# EAGLE library part AFE031 (library MDB_HOME)
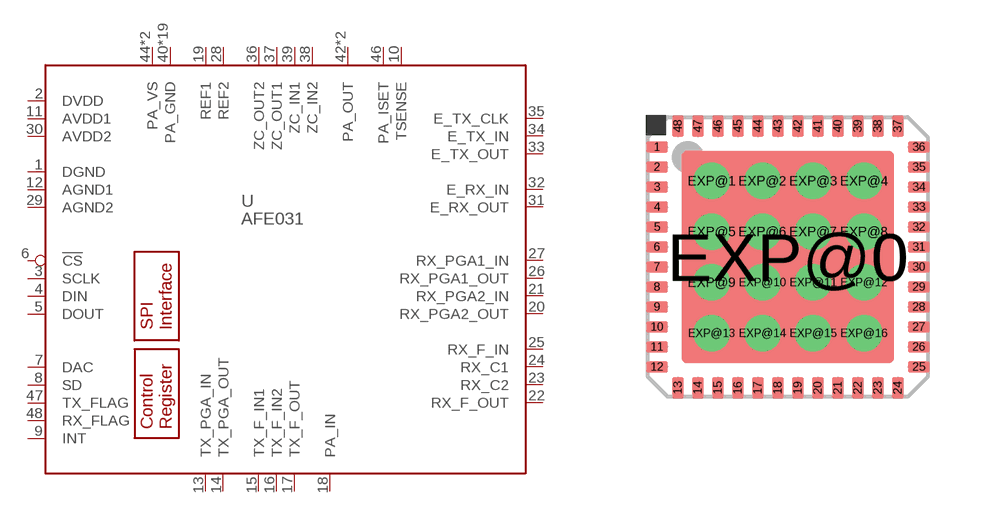
[diagram p59: symbol with the pads of QFN48; footprint QFN48]

Designator prefix U

## AFE031  [QFN48]
1  DGND
2  DVDD
3  SCLK
4  DIN
5  DOUT
6  !CS
7  DAC
8  SD
9  INT
10  TSENSE
11  AVDD1
12  AGND1
13  TX_PGA_IN
14  TX_PGA_OUT
15  TX_F_IN1
16  TX_F_IN2
17  TX_F_OUT
18  PA_IN
19  REF1
20  RX_PGA2_OUT
21  RX_PGA2_IN
22  RX_F_OUT
23  RX_C2
24  RX_C1
25  RX_F_IN
26  RX_PGA1_OUT
27  RX_PGA1_IN
28  REF2
29  AGND2
30  AVDD2
31  E_RX_OUT
32  E_RX_IN
33  E_TX_OUT
34  E_TX_IN
35  E_TX_CLK
36  ZC_OUT2
37  ZC_OUT1
38  ZC_IN2
39  ZC_IN1
40  PA_GND
41  PA_GND
42  PA_OUT
43  PA_OUT
44  PA_VS
45  PA_VS
46  PA_ISET
47  TX_FLAG
48  RX_FLAG
EXP@0  PA_GND
EXP@1  PA_GND
EXP@2  PA_GND
EXP@3  PA_GND
EXP@4  PA_GND
EXP@5  PA_GND
EXP@6  PA_GND
EXP@7  PA_GND
EXP@8  PA_GND
EXP@9  PA_GND
EXP@10  PA_GND
EXP@11  PA_GND
EXP@12  PA_GND
EXP@13  PA_GND
EXP@14  PA_GND
EXP@15  PA_GND
EXP@16  PA_GND

## Footprint QFN48 (pad centres in mm)
48-pin QFN 7 x 7 mm LF48 QFN-48 Quad Flat Package No Leads, PowerPAD TI QFN Layout Guidelines <http://www.ti.com/lit/an/sloa122/sloa122.pdf> TI QFN/SON PCB Attachment <http://www.ti.com/lit/an/slua271a/slua271a.pdf> Cypress package source <http://v4.cypress.com/cfuploads/img/products/cywusb6934.pdf> It has been observed that some QFN configurations utilize an exposed metal pin 1 feature beneath the component, which has a potential of shorting to a via if present in this region. Therefore, TI recommends maintaining a routing and via keep-out area by pin 1 on all QFN designs to guard against this risk and offer more flexibility when selecting different suppliers. SLUA271A–June 2002–Revised September 2007, page 8 <http://www.ti.com/lit/an/slua271a/slua271a.pdf>
smd 0.55 x 0.3: 1 -3.275,2.75; 2 -3.275,2.25; 3 -3.275,1.75; 4 -3.275,1.25; 5 -3.275,0.75; 6 -3.275,0.25; 7 -3.275,-0.25; 8 -3.275,-0.75; 9 -3.275,-1.25; 10 -3.275,-1.75; 11 -3.275,-2.25; 12 -3.275,-2.75; 25 3.275,-2.75; 26 3.275,-2.25; 27 3.275,-1.75; 28 3.275,-1.25; 29 3.275,-0.75; 30 3.275,-0.25; 31 3.275,0.25; 32 3.275,0.75; 33 3.275,1.25; 34 3.275,1.75; 35 3.275,2.25; 36 3.275,2.75
smd 0.3 x 0.55: 13 -2.75,-3.275; 14 -2.25,-3.275; 15 -1.75,-3.275; 16 -1.25,-3.275; 17 -0.75,-3.275; 18 -0.25,-3.275; 19 0.25,-3.275; 20 0.75,-3.275; 21 1.25,-3.275; 22 1.75,-3.275; 23 2.25,-3.275; 24 2.75,-3.275; 37 2.75,3.275; 38 2.25,3.275; 39 1.75,3.275; 40 1.25,3.275; 41 0.75,3.275; 42 0.25,3.275; 43 -0.25,3.275; 44 -0.75,3.275; 45 -1.25,3.275; 46 -1.75,3.275; 47 -2.25,3.275; 48 -2.75,3.275
smd 5.309 x 5.309: EXP@0 0,0
drill 0.4 pad 0.813: EXP@1 -1.905,1.905; EXP@2 -0.635,1.905; EXP@3 0.635,1.905; EXP@4 1.905,1.905; EXP@5 -1.905,0.635; EXP@6 -0.635,0.635; EXP@7 0.635,0.635; EXP@8 1.905,0.635; EXP@9 -1.905,-0.635; EXP@10 -0.635,-0.635; EXP@11 0.635,-0.635; EXP@12 1.905,-0.635; EXP@13 -1.905,-1.905; EXP@14 -0.635,-1.905; EXP@15 0.635,-1.905; EXP@16 1.905,-1.905